# Altium footprint library DataCollection.PcbLib: 33 footprints (part 2 of 3)
Each footprint in its own frame and in the unit in brackets; x right, y up, seen from the top. Pads: shape width x height; smd on the part's side, far side on the other; paste and mask are expansions set on the pad; w line width, h text height; cw(c..) or ccw(c..) is an arc to the next point about the centre after c.
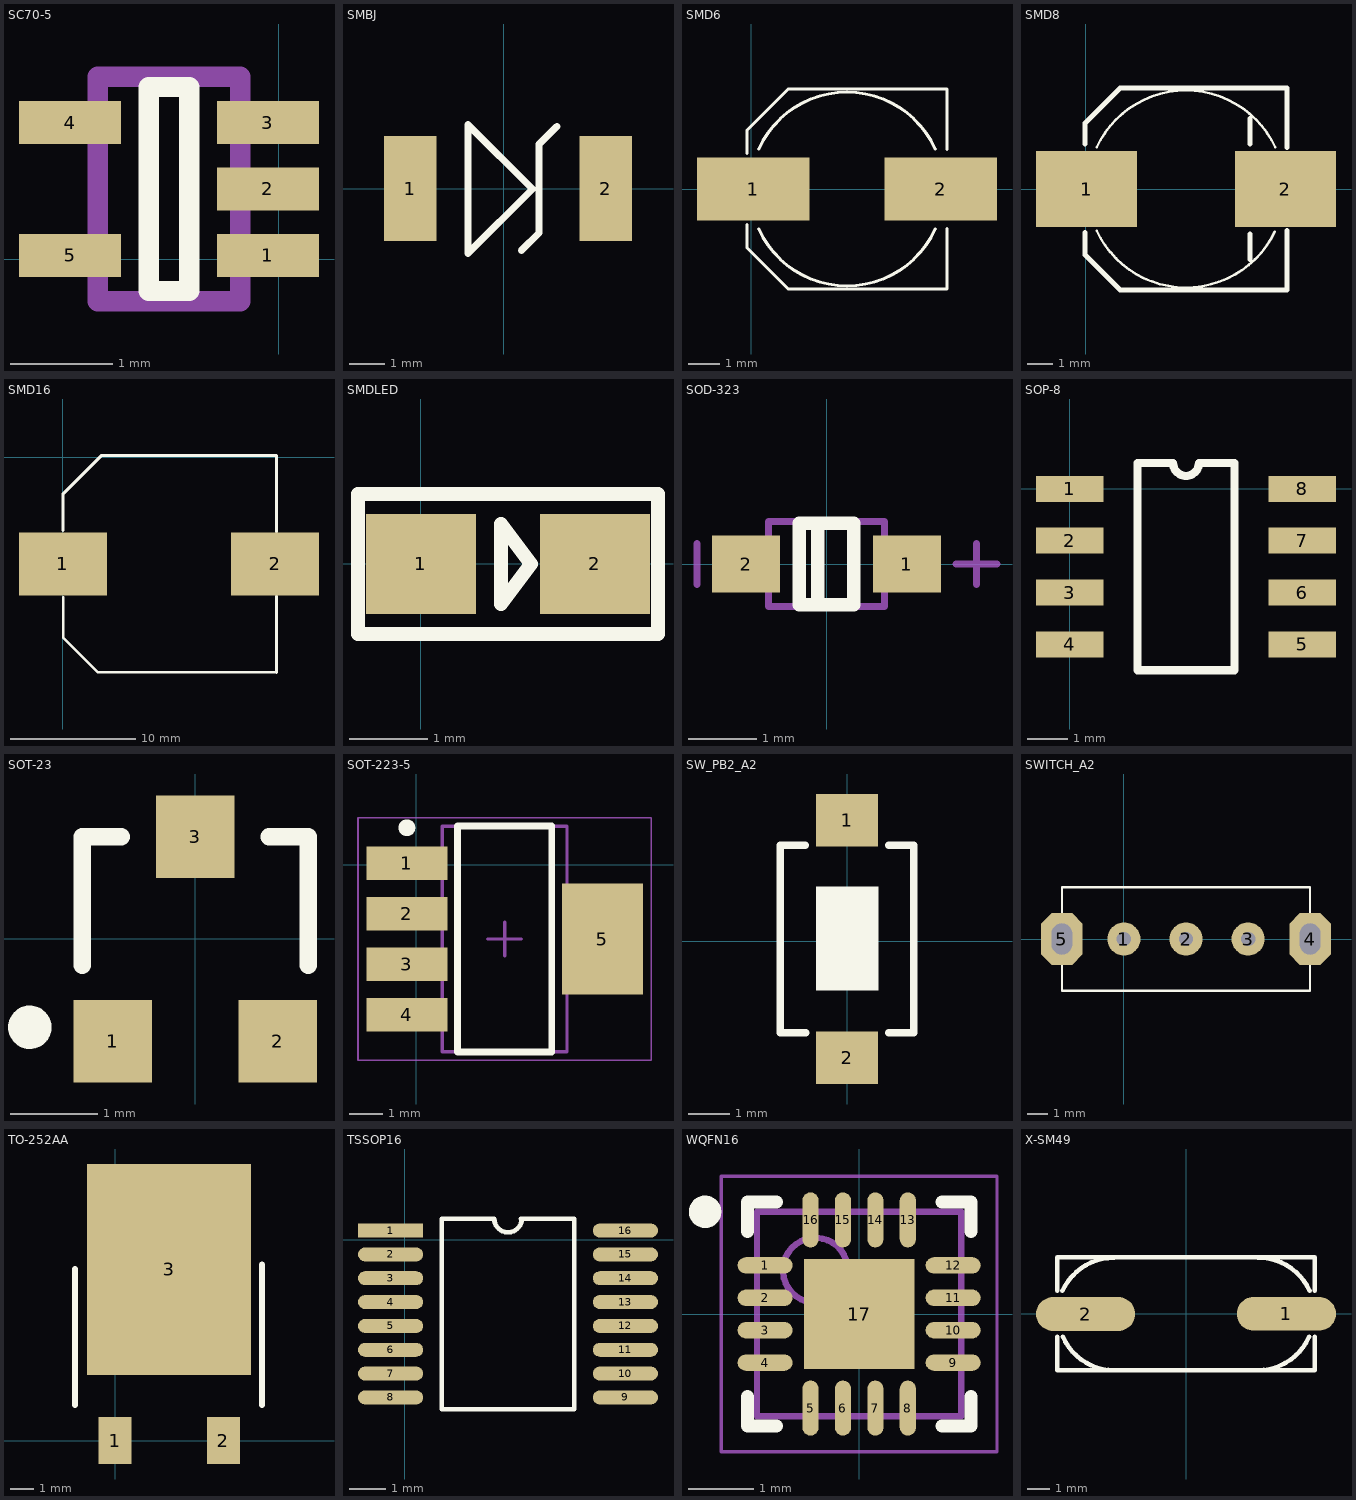
[diagram p1: the footprints below, top view; thin cyan lines are the x and y axes]

## SC70-5 [mm]
height 2.65
pads (5):
  rect 1x0.42 smd mask+0.051: 1(-0.108,0.04) 2(-0.108,0.69) 3(-0.108,1.34) 4(-2.048,1.34) 5(-2.048,0.04)
Top Overlay:
  lines w0.2: -1.278,-0.31 -1.278,1.69 -0.878,1.69 -0.878,-0.31 -1.278,-0.31
Mechanical 13:
  lines w0.2: -1.778,-0.41 -0.378,-0.41 -0.378,1.79 -1.778,1.79 -1.778,-0.41
3D body: height 1.1, standoff 0, extent -2.278,-0.41 0.122,1.79

## SMBJ [mm]
height 2.65
pads (2):
  rect 1.5x3 smd: 1(-2.667,0) 2(2.921,0)
Top Overlay:
  lines w0.203: 0.508,-1.778 1.016,-1.27 1.016,1.27 1.524,1.778 ; -1.016,-1.854 0.826,-0.013 -1.016,1.829 -1.016,-1.854

## SMD6 [mm]
height 2.65
pads (2):
  rect 3.6x2 smd: 1(0.071,0.009) 2(6.071,0.009)
Top Overlay:
  lines w0.1: -0.129,-1.134 -0.129,-1.871 1.191,-3.191 6.271,-3.191 6.271,-1.261 ; -0.129,1.152 -0.129,1.889 1.191,3.209 6.271,3.209 6.271,1.279 ; 0.249,-1.274 ccw(c3.071,0.009) 5.893,-1.274 ; 0.249,1.292 cw(c3.071,0.009) 5.893,1.292

## SMD8 [mm]
height 2.65
pads (2):
  rect 4x3 smd: 1(0.028,0.007) 2(7.902,0.007)
Top Overlay:
  lines w0.1: 0.426,-1.636 ccw(c3.965,0.007) 7.481,-1.686 ; 0.426,1.65 cw(c3.965,0.007) 7.504,1.65
  lines w0.2: -0.035,-1.707 -0.035,-2.597 1.361,-3.993 7.965,-3.993 7.965,-1.644 ; -0.035,1.785 -0.035,2.611 1.361,4.007 7.965,4.007 7.965,1.658 ; 6.505,-2.787 6.505,-1.771 ; 6.505,1.785 6.505,2.801
3D body: height 10.9, standoff 0.9, extent 0.116,-3.865 7.845,3.879
3D body: height 0.6, standoff 0, extent 0.028,-3.93 7.902,3.944

## SMD16 [mm]
height 2.65
pads (2):
  rect 7x5 smd: 1(0,-8.5) 2(16.891,-8.5)
Top Overlay:
  lines w0.2: 0.011,-11.176 0.011,-14.362 2.794,-17.145 17.018,-17.145
  lines w0.254: 0.011,-5.842 0.011,-2.91 3.048,0.127 17.018,0.127 17.018,-5.969 ; 17.018,-17.145 17.018,-11.049
3D body: height 10.9, standoff 0.9, extent 5.715,-11.086 11.303,-5.969
3D body: height 0.6, standoff 0, extent 0,-17.145 17.018,0.254

## SMDLED [mm] "贴片LED"
height 2.65
pads (2):
  rect 1.4x1.27 smd: 1(0.001,-0.002) 2(2.211,-0.002)
Top Overlay:
  lines w0.178: 3.012,0.887 3.011,0.887 ; 3.011,0.887 3.011,-0.891 -0.799,-0.891 -0.799,-0.002 -0.799,0.887 3.011,0.887 ; 1.017,-0.51 1.017,0.506 1.398,-0.002 1.017,-0.51

## SOD-323 [mm]
height 2.65
pads (2):
  rect 1x0.83 smd: 1(1.18,0) 2(-1.18,0)
Top Overlay:
  lines w0.2: -0.13,-0.6 -0.13,0.6 ; -0.4,-0.6 0.4,-0.6 0.4,0.6 -0.4,0.6 -0.4,-0.6
Mechanical 13:
  lines w0.1: -0.85,-0.625 0.85,-0.625 0.85,0.625 -0.85,0.625 -0.85,-0.625
Mechanical 15:
  lines w0.1: -1.9,-0.3 -1.9,0.3 ; 1.9,0 2.5,0 ; 2.2,-0.3 2.2,0.3
3D body: height 1.1, standoff 0, extent -1.35,-0.625 1.35,0.625

## SOP-8 [mil]
height 104.33
pads (8):
  rect 65x25 smd: 1(0,0) 2(0,-50) 3(0,-100) 4(0,-150) 5(224.41,-150) 6(224.41,-100) 7(224.41,-50) 8(224.41,0)
Top Overlay:
  lines w7.87: 65.37,-175 159.04,-175 159.04,25 124.7,25 cw(c112.2,25) 99.7,25 65.37,25 65.37,-175

## SOT-23 [mm]
height 1.1
pads (3):
  rect 0.9x0.95 smd: 1(-0.95,-1.175) 2(0.95,-1.175) 3(0,1.175)
Top Overlay:
  circle w0.25: c-1.903,-1.016 r0.125
  lines w0.2: -1.3,-0.3 -1.3,1.175 -0.85,1.175 ; 0.85,1.175 1.3,1.175 1.3,-0.3

## SOT-223-5 [mm]
height 2.65
pads (5):
  rect 2.4x1 smd: 1(-0.285,0.047) 2(-0.285,-1.453) 3(-0.285,-2.953) 4(-0.285,-4.453)
  rect 2.4x3.3 smd: 5(5.515,-2.203)
Top Overlay:
  circle w0.25: c-0.285,1.097 r0.125
  lines w0.2: 1.215,-5.553 4.015,-5.553 4.015,1.147 1.215,1.147 1.215,-5.553
Mechanical 13:
  lines w0.1: 0.765,-5.553 4.465,-5.553 4.465,1.147 0.765,1.147 0.765,-5.553
Mechanical 15:
  lines w0.05: -1.735,-5.803 6.965,-5.803 6.965,1.397 -1.735,1.397 -1.735,-5.803
  lines w0.1: 2.115,-2.203 3.115,-2.203 ; 2.615,-2.703 2.615,-1.703
3D body: height 1.8, standoff 0.02, extent 0.765,-5.553 4.465,1.147

## SW_PB2_A2 [mm] "3*4mm"
height 2.65
pads (2):
  rect 1.5x1.25 smd: 1(0,2.9) 2(0,-2.8)
Top Overlay:
  region: -0.747,1.309 -0.747,-1.191 0.753,-1.191 0.753,1.309
  lines w0.178: -1,2.3 -1.6,2.3 -1.6,-2.198 -0.995,-2.202 ; 1,-2.2 1.6,-2.2 1.6,2.3 1,2.3
3D body: height 1.2, standoff 0.8, extent -0.762,-1.143 0.762,1.27

## SWITCH_A2 [mm] "平拨开关"
height 9
pads (5):
  round 1.6 hole 0.7: 1(0,0) 2(3,0) 3(6,0)
  oct 2x2.5 hole 1 slot 1.5 at 90 deg: 4(9,0) 5(-3,0)
Top Overlay:
  lines w0.1: -3,-2.5 -3,2.5 9,2.5 9,-2.5 -3,-2.5

## TO-252AA [mm]
height 2.65
pads (3):
  rect 1.4x2 smd: 1(0,0) 2(4.623,0)
  rect 7x9 smd: 3(2.3,7.3)
Top Overlay:
  lines w0.254: -1.716,1.524 -1.716,7.315 ; 6.261,1.524 6.261,7.515

## TSSOP16 [mil]
height 104.33
pads (16):
  rect 70x15 smd: 1(-15,10)
  oval 70x15 smd: 2(-15,-15.59) 3(-15,-41.18) 4(-15,-66.77) 5(-15,-92.36) 6(-15,-117.95) 7(-15,-143.54) 8(-15,-169.13) 9(236.97,-169.13) 10(236.97,-143.54) 11(236.97,-117.95) 12(236.97,-92.36) 13(236.97,-66.77) 14(236.97,-41.18) 15(236.97,-15.59) 16(236.97,10)
Top Overlay:
  lines w5: 124.76,22.8 181.97,22.8 181.97,-181.93 40,-181.93 40,22.8 96.22,22.8 ccw(c110.98,22.8) 125.75,22.79

## WQFN16 [mm] "QFN, 16-Leads, Body 3.00x3.00mm, Pitch 0.50mm, Thermal Pad 1.70x1.70mm, IPC Medium Density"
height 0.8
pads (17):
  oval 0.85x0.25 smd: 1(-1.45,0.75) 2(-1.45,0.25) 3(-1.45,-0.25) 4(-1.45,-0.75) 9(1.45,-0.75) 10(1.45,-0.25) 11(1.45,0.25) 12(1.45,0.75)
  oval 0.25x0.85 smd: 5(-0.75,-1.45) 6(-0.25,-1.45) 7(0.25,-1.45) 8(0.75,-1.45) 13(0.75,1.45) 14(0.25,1.45) 15(-0.25,1.45) 16(-0.75,1.45)
  rect 1.7x1.7 smd: 17(0,0)
Top Overlay:
  circle w0.25: c-2.375,1.575 r0.125
  lines w0.2: -1.725,-1.275 -1.725,-1.725 -1.275,-1.725 ; -1.725,1.275 -1.725,1.725 -1.275,1.725 ; 1.275,-1.725 1.725,-1.725 1.725,-1.275 ; 1.275,1.725 1.725,1.725 1.725,1.275
Mechanical 13:
  circle w0.1: c-0.675,0.675 r0.5
  lines w0.1: -1.575,-1.575 1.575,-1.575 1.575,1.575 -1.575,1.575 -1.575,-1.575
Mechanical 15:
  lines w0.05: -2.125,-2.125 2.125,-2.125 2.125,2.125 -2.125,2.125 -2.125,-2.125
  lines w0.1: -0.5,0 0.5,0 ; 0,-0.5 0,0.5
3D body: height 0.8, standoff 0.08, extent -1.575,-1.575 1.575,1.575

## X-SM49 [mm]
height 14.8
pads (2):
  oval 4.4x1.5 smd: 1(4.45,0.004) 2(-4.45,-0.004)
Top Overlay:
  lines w0.2: -5.7,-2.499 5.718,-2.499 ; -5.7,-2.496 -5.7,-1.016 ; -5.7,1.016 -5.7,2.504 5.718,2.504 5.718,1.016 ; -5.477,1.023 cw(c-3.202,-0.013) -3.175,2.487 ; -5.461,-1.016 ccw(c-3.176,-0.001) -3.176,-2.501 ; 3.175,-2.5 ccw(c3.175,0) 5.46,-1.015 ; 3.175,2.496 cw(c3.202,-0.004) 5.48,1.025 ; 5.718,-2.496 5.718,-1.016